# Altium schematic symbol library AltiumMechanicalLibrarySchematic.SchLib: 1 symbol
Pins are listed as number, name and electrical type; pins without a type are passive.

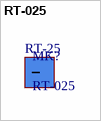
[diagram p0: symbol RT-025]

## RT-025
designator MK?
DIN Ray Montaj Kart Beşiği (Ray Distans); ComponentLink1Description: Datasheet; ComponentLink1URL: https://www.altinkaya.com.tr/documents/RT-025.pdf
footprint RT-25 (Footprint not found)
footprint xxxx
pins: 1 0
text: RT-25